# Altium footprint library PcbLib.PcbLib: 3 footprints
Each footprint in its own frame and in the unit in brackets; x right, y up, seen from the top. Pads: shape width x height; smd on the part's side, far side on the other; paste and mask are expansions set on the pad; w line width, h text height; cw(c..) or ccw(c..) is an arc to the next point about the centre after c.
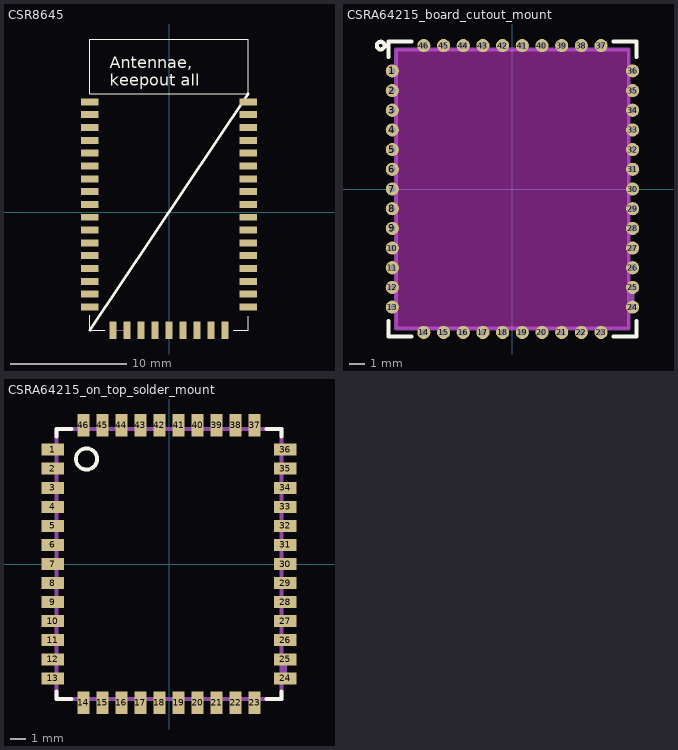
[diagram p0: the footprints below, top view; thin cyan lines are the x and y axes]

## CSR8645 [mm] "CSR8645 breakout module from China"
pads (43):
  rect 1.5x0.6 smd: 1(-6.8,9.45) 2(-6.8,8.35) 3(-6.8,7.25) 4(-6.8,6.15) 5(-6.8,5.05) 6(-6.8,3.95) 7(-6.8,2.85) 8(-6.8,1.75) 9(-6.8,0.65) 10(-6.8,-0.45) 11(-6.8,-1.55) 12(-6.8,-2.65) 13(-6.8,-3.75) 14(-6.8,-4.85) 15(-6.8,-5.95) 16(-6.8,-7.05) 17(-6.8,-8.15) 27(6.8,-8.15) 28(6.8,-7.05) 29(6.8,-5.95) 30(6.8,-4.85) 31(6.8,-3.75) 32(6.8,-2.65) 33(6.8,-1.55) 34(6.8,-0.45) 35(6.8,0.65) 36(6.8,1.75) 37(6.8,2.85) 38(6.8,3.95) 39(6.8,5.05) 40(6.8,6.15) 41(6.8,7.25) 42(6.8,8.35) 43(6.8,9.45)
  rect 0.6x1.5 smd: 18(-4.8,-10.15) 19(-3.6,-10.15) 20(-2.4,-10.15) 21(-1.2,-10.15) 22(0,-10.15) 23(1.2,-10.15) 24(2.4,-10.15) 25(3.6,-10.15) 26(4.8,-10.15)
Top Overlay:
  lines w0.1: -6.8,-8.85 -6.8,-10.15 -5.5,-10.15 ; 5.5,-10.15 6.8,-10.15 6.8,-8.95 ; -6.8,10.15 -6.8,14.85 6.8,14.85 6.8,10.15 -6.8,10.15
  lines w0.254: -6.8,-10.15 6.8,10.15
  text "Antennae, / keepout all" at -5.1,10.85 h1
Mechanical 1:
  lines w0.1: -4.8,-10.15 -3.6,-10.15
Mechanical 2:
  text "DGND" at -7.4,-8.25 h0.3
  text "P1V8_out" at -7.4,-7.15 h0.3
  text "PWR_EN" at -7.4,-6.05 h0.3
  text "Vbat" at -7.4,-4.95 h0.3
  text "nRST" at -7.4,-3.85 h0.3
  text "Vbus_CHG" at -7.4,-2.75 h0.3
  text "UART_RX" at -7.4,-1.65 h0.3
  text "UART_TX" at -7.4,-0.55 h0.3
  text "SPIorPCM" at -7.4,0.55 h0.3
  text "SPI_MOSI" at -7.4,1.65 h0.3
  text "SPI_SCK" at -7.4,2.75 h0.3
  text "CSB" at -7.4,3.85 h0.3
  text "SPI_MISO" at -7.4,4.95 h0.3
  text "AIO_0" at -7.4,6.05 h0.3
  text "LED1" at -7.4,8.25 h0.3
  text "LED2" at -7.4,9.35 h0.3
  text "AGND" at 5.2,9.35 h0.3
  text "LED0" at -7.4,7.15 h0.3
  text "L_P" at 5.2,8.25 h0.3
  text "L_N" at 5.2,7.15 h0.3
  text "R_P" at 5.2,6.05 h0.3
  text "R_N" at 5.2,4.95 h0.3
  text "MIC_BP" at 5.2,3.85 h0.3
  text "MIC_BN" at 5.2,2.75 h0.3
  text "MIC_AP" at 5.2,1.65 h0.3
  text "MIC_AN" at 5.2,0.55 h0.3
  text "MIC_BIAS" at 5.2,-0.55 h0.3
  text "PIO_21" at 5.2,-1.65 h0.3
  text "PIO_20" at 5.2,-2.75 h0.3
  text "PIO_19" at 5.2,-3.85 h0.3
  text "PIO_18" at 5.2,-4.95 h0.3
  text "PIO_8" at 5.2,-6.05 h0.3
  text "PIO_7" at 5.2,-7.15 h0.3
  text "PIO_6" at 5.2,-8.25 h0.3
  text "PIO_9" at 4.9,-10.75 h0.3
  text "USB_P" at 3.7,-10.75 h0.3
  text "USB_N" at 2.5,-10.75 h0.3
  text "PIO_13" at 1.3,-10.75 h0.3
  text "PIO_12" at 0.1,-10.75 h0.3
  text "PIO_11" at -1.1,-10.75 h0.3
  text "PIO_10" at -2.3,-10.75 h0.3
  text "BAT_SENSE" at -3.5,-10.75 h0.3
  text "CHG_EXT" at -4.7,-10.75 h0.3

## CSRA64215_board_cutout_mount [mm] "CSRA64215 breakout module from China, foorprint for mounting it inside a board cutout"
height 5
pads (46):
  round 0.85 hole 0.4: 1(-7.75,7.62) 2(-7.75,6.35) 3(-7.75,5.08) 4(-7.75,3.81) 5(-7.75,2.54) 6(-7.75,1.27) 7(-7.75,0) 8(-7.75,-1.27) 9(-7.75,-2.54) 10(-7.75,-3.81) 11(-7.75,-5.08) 12(-7.75,-6.35) 13(-7.75,-7.62) 14(-5.715,-9.25) 15(-4.445,-9.25) 16(-3.175,-9.25) 17(-1.905,-9.25) 18(-0.635,-9.25) 19(0.635,-9.25) 20(1.905,-9.25) 21(3.175,-9.25) 22(4.445,-9.25) 23(5.715,-9.25) 24(7.75,-7.62) 25(7.75,-6.35) 26(7.75,-5.08) 27(7.75,-3.81) 28(7.75,-2.54) 29(7.75,-1.27) 30(7.75,0) 31(7.75,1.27) 32(7.75,2.54) 33(7.75,3.81) 34(7.75,5.08) 35(7.75,6.35) 36(7.75,7.62) 37(5.715,9.25) 38(4.445,9.25) 39(3.175,9.25) 40(1.905,9.25) 41(0.635,9.25) 42(-0.635,9.25) 43(-1.905,9.25) 44(-3.175,9.25) 45(-4.445,9.25) 46(-5.715,9.25)
Top Overlay:
  circle w0.254: c-8.5,9.25 r0.25
  lines w0.254: -8,-8.5 -8,-9.5 -6.5,-9.5 ; -8,8.5 -8,9.5 -6.5,9.5 ; 6.5,-9.5 8,-9.5 8,-8.5 ; 6.5,9.5 8,9.5 8,8.5
Keep-Out Layer:
  board cut-out: -7.5,9 7.5,9 7.5,-9 -7.5,-9
Mechanical 1:
  lines w0.254: -7.5,-9 -7.5,9 7.5,9 7.5,-9 -7.5,-9
Mechanical 13:
  lines w0.254: 7.75,-7.62 7.75,-6.35 ; -7.5,-9 -7.5,9 7.5,9 7.5,-9 -7.5,-9

## CSRA64215_on_top_solder_mount [mm] "CSRA64215 breakout module from China, foorprint for mounting it on top/bottom of the PCB"
height 5
pads (46):
  rect 1.5x0.8 smd: 1(-7.75,7.62) 2(-7.75,6.35) 3(-7.75,5.08) 4(-7.75,3.81) 5(-7.75,2.54) 6(-7.75,1.27) 7(-7.75,0) 8(-7.75,-1.27) 9(-7.75,-2.54) 10(-7.75,-3.81) 11(-7.75,-5.08) 12(-7.75,-6.35) 13(-7.75,-7.62) 24(7.75,-7.62) 25(7.75,-6.35) 26(7.75,-5.08) 27(7.75,-3.81) 28(7.75,-2.54) 29(7.75,-1.27) 30(7.75,0) 31(7.75,1.27) 32(7.75,2.54) 33(7.75,3.81) 34(7.75,5.08) 35(7.75,6.35) 36(7.75,7.62)
  rect 0.8x1.5 smd: 14(-5.715,-9.25) 15(-4.445,-9.25) 16(-3.175,-9.25) 17(-1.905,-9.25) 18(-0.635,-9.25) 19(0.635,-9.25) 20(1.905,-9.25) 21(3.175,-9.25) 22(4.445,-9.25) 23(5.715,-9.25) 37(5.715,9.25) 38(4.445,9.25) 39(3.175,9.25) 40(1.905,9.25) 41(0.635,9.25) 42(-0.635,9.25) 43(-1.905,9.25) 44(-3.175,9.25) 45(-4.445,9.25) 46(-5.715,9.25)
Top Overlay:
  circle w0.254: c-5.5,7 r0.707
  lines w0.254: -7.5,-8.5 -7.5,-9 -6.5,-9 ; -7.5,8.5 -7.5,9 -6.5,9 ; 6.5,-9 7.5,-9 7.5,-8.5 ; 6.5,9 7.5,9 7.5,8.5
Mechanical 13:
  lines w0.254: 7.75,-7.62 7.75,-6.35 ; -7.5,-9 7.5,-9 7.5,9 -7.5,9 -7.5,-9
3D body: height 2, standoff 0, extent -7.5,-9 7.5,9